# Altium footprint library SFH11-PBPC-D10-RA-BK.PcbLib: 1 footprints
Each footprint in its own frame and in the unit in brackets; x right, y up, seen from the top. Pads: shape width x height; smd on the part's side, far side on the other; paste and mask are expansions set on the pad; w line width, h text height; cw(c..) or ccw(c..) is an arc to the next point about the centre after c.
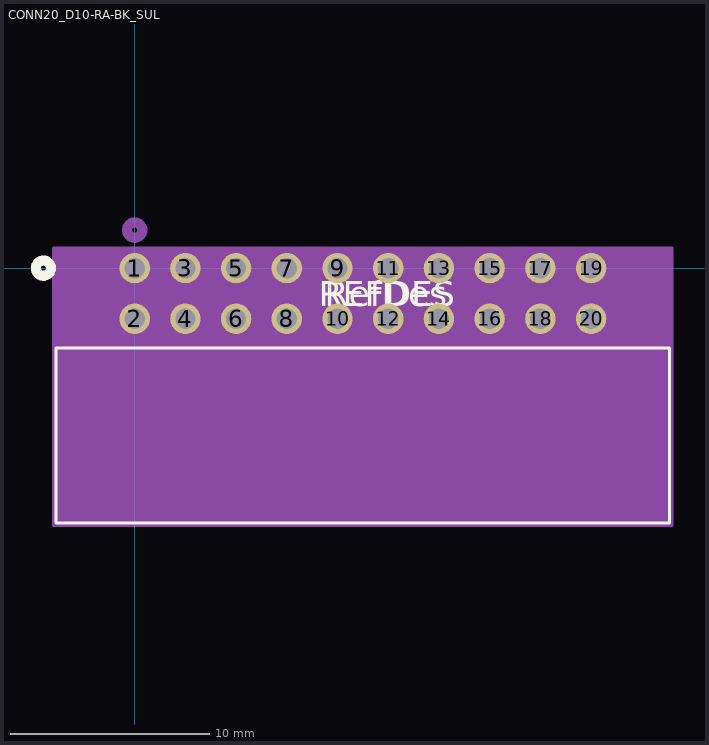
[diagram p0: the footprint, top view; thin cyan lines are the x and y axes]

## CONN20_D10-RA-BK_SUL [mil]
pads (20):
  round 60 hole 40 paste-30 mask+0: 1(0,0) 2(0,-100) 3(100,0) 4(100,-100) 5(200,0) 6(200,-100) 7(300,0) 8(300,-100) 9(400,0) 10(400,-100) 11(500,0) 12(500,-100) 13(600,0) 14(600,-100) 15(700,0) 16(700,-100) 17(800,0) 18(800,-100) 19(900,0) 20(900,-100)
Top Overlay:
  circle w20: c-180,0 r15
  lines w6: -155,-502.64 1055,-502.64 1055,-157.64 -155,-157.64 -155,-502.64
  text "RefDes" at 375,-75 h50
  text "REFDES" at 362.5,-75 h50
Bottom Overlay:
  circle w20: c-180,0 r15
Mechanical 13:
  circle w20: c0,75 r15
  lines w1: -150,-497.64 1050,-497.64 1050,-162.64 -150,-162.64 -150,-497.64
  text "RefDes2" at 362.5,-75 h50
Mechanical 15:
  region: 1060,40 -160,40 -160,-507.64 1060,-507.64
  lines w6: -160,-507.64 -160,40 1060,40 1060,-507.64 -160,-507.64
3D body "SFH11-xxPC-D10-RA-BK.STEP": height 281.42, standoff -104.41, extent -150,-497.76 1043.7,7.76